# Altium footprint library L_SER2900.PcbLib: 1 footprints
Each footprint in its own frame and in the unit in brackets; x right, y up, seen from the top. Pads: shape width x height; smd on the part's side, far side on the other; paste and mask are expansions set on the pad; w line width, h text height; cw(c..) or ccw(c..) is an arc to the next point about the centre after c.
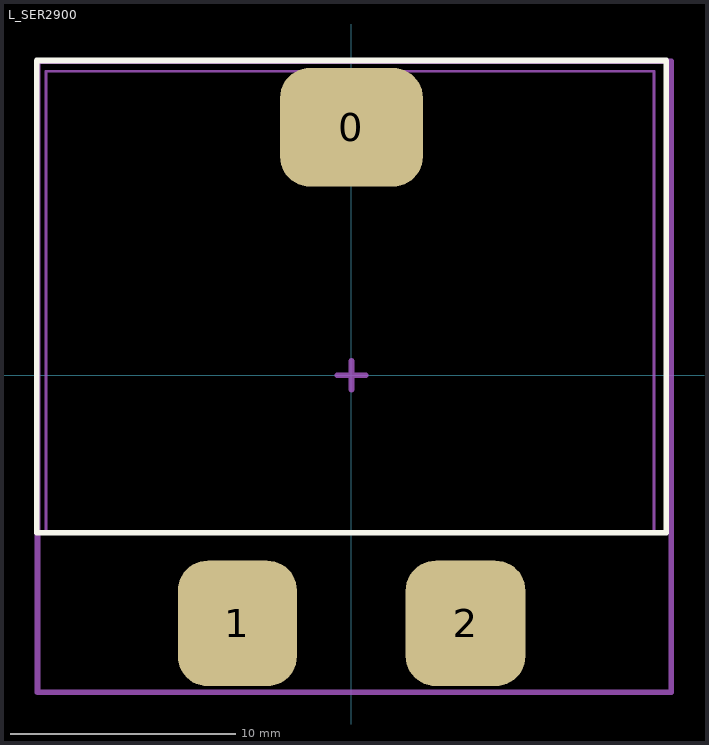
[diagram p0: the footprint, top view; thin cyan lines are the x and y axes]

## L_SER2900 [mm]
pads (3):
  rrect50% 6.35x5.28 smd: 0(0,11.038)
  rrect50% 5.3x5.59 smd: 1(-5.075,-11.037)
  rrect50% 5.33x5.59 smd: 2(5.075,-11.037)
Top Overlay:
  lines w0.254: -14,-7 -14,14 14,14 14,-7 -14,-7
Mechanical 13:
  lines w0.127: -13.589,-6.985 13.45,-6.985 13.45,13.524 -13.589,13.524 -13.589,-6.985
Mechanical 15:
  lines w0.254: -0.635,0 0.635,0 ; 0,-0.635 0,0.635 ; -13.97,-14.097 14.224,-14.097 14.224,13.97 -13.97,13.97 -13.97,-14.097
Mechanical 17:
  text "'.Designator'" at -14.097,-6.223 h1.27
Mechanical 19:
  text "'.Comment'" at -14.097,-6.223 h1.27
3D body "User Library-SER2918.STEP": height 17.2, standoff 0, extent -13.55,-13.183 13.45,13.524